# EAGLE library part PINHD-1X7 (library gee_s)
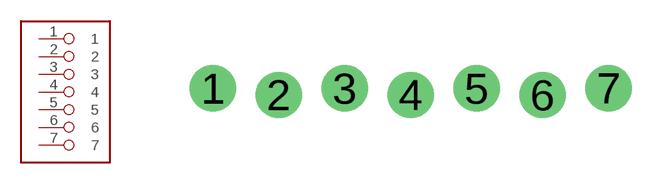
[diagram p10: symbol with the pads of 1X07-LOCK; footprint 1X07-LOCK]

Designator prefix -

## PINHD-1X7  [1X07-LOCK]
1  1
2  2
3  3
4  4
5  5
6  6
7  7

## PINHD-1X75X1LOCK  [1X07-LOCK]

## Footprint 1X07-LOCK (pad centres in mm)
drill 1.016 pad 1.778: 1 -8.89,0.127; 2 -6.35,-0.127; 3 -3.81,0.127; 4 -1.27,-0.127; 5 1.27,0.127; 6 3.81,-0.127; 7 6.35,0.127